# Altium footprint library ionis.PcbLib: 70 footprints (part 1 of 5)
Each footprint in its own frame and in the unit in brackets; x right, y up, seen from the top. Pads: shape width x height; smd on the part's side, far side on the other; paste and mask are expansions set on the pad; w line width, h text height; cw(c..) or ccw(c..) is an arc to the next point about the centre after c.
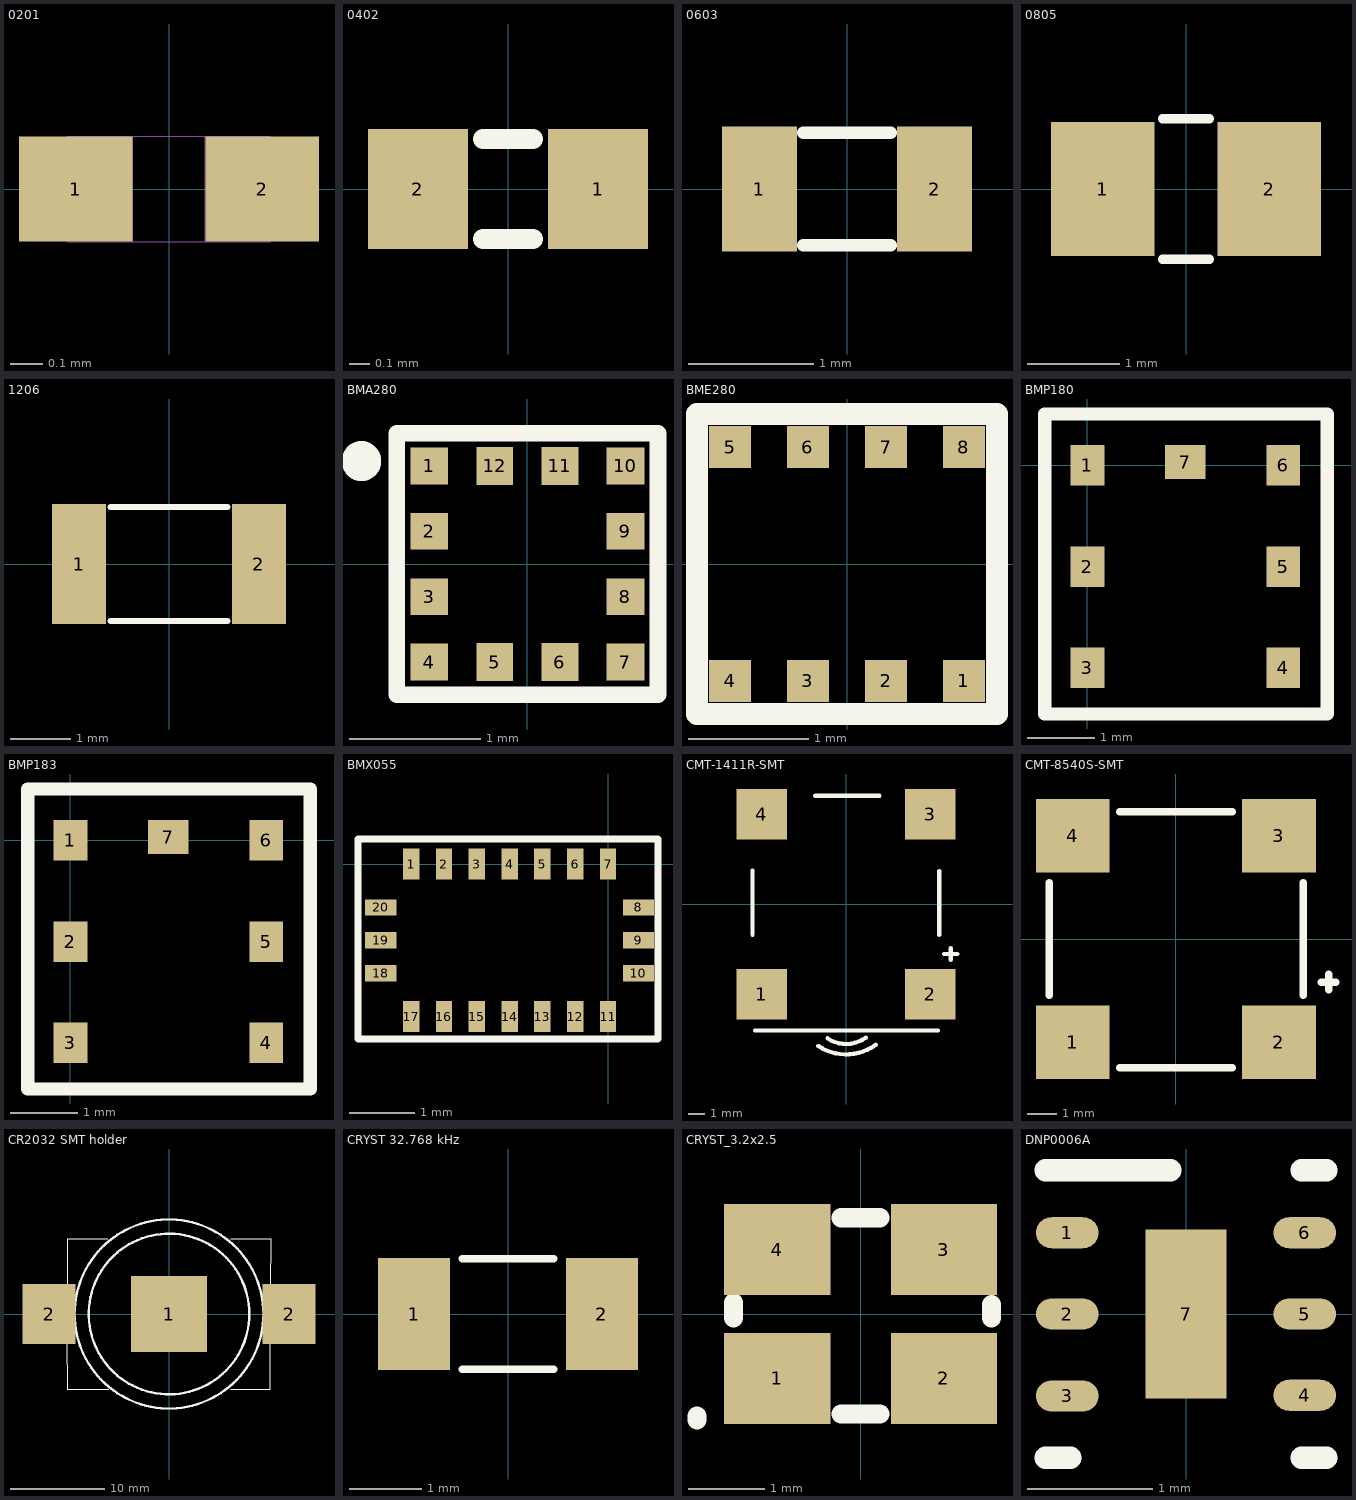
[diagram p0: the footprints below, top view; thin cyan lines are the x and y axes]

## 0201 [mil]
pads (2):
  rect 14x13 smd: 1(-11.5,0) 2(11.5,0)
Mechanical 1:
  lines w0: -12.5,-6.5 -12.5,6.5 ; -12.5,-6.5 12.5,-6.5 ; -12.5,-6.5 -4.5,-6.5 -4.5,6.5 -12.5,6.5 ; -12.5,-6.5 -12.5,6.5 ; -12.5,6.5 12.5,6.5 ; 12.5,-6.5 12.5,6.5 ; 12.5,-6.5 12.5,6.5 ; 12.5,-6.5 4.5,-6.5 4.5,6.5 12.5,6.5

## 0402 [mm]
pads (2):
  rect 0.5x0.6 smd: 1(0.45,0) 2(-0.45,0)
Top Overlay:
  lines w0.1: -0.125,-0.25 0.125,-0.25 ; -0.125,0.25 0.125,0.25

## 0603 [mm]
pads (2):
  rect 0.6x1 smd: 1(-0.7,0) 2(0.7,0)
Top Overlay:
  lines w0.1: -0.35,-0.45 0.35,-0.45 ; -0.35,0.45 0.35,0.45

## 0805 [mil]
pads (2):
  rect 44x57 smd: 1(-35.5,0) 2(35.5,0)
Top Overlay:
  lines w3.94: -10,-30 10,-30 ; -10,30 10,30

## 1206 [mm]
pads (2):
  rect 0.9x2 smd: 1(-1.5,0) 2(1.5,0)
Top Overlay:
  lines w0.1: -0.975,-0.95 0.975,-0.95 ; -0.975,0.95 0.975,0.95

## BMA280 [mm]
pads (12):
  rect 0.29x0.28 smd: 1(-0.75,0.75) 2(-0.75,0.25) 3(-0.75,-0.25) 4(-0.75,-0.75) 7(0.75,-0.75) 8(0.75,-0.25) 9(0.75,0.25) 10(0.75,0.75)
  rect 0.28x0.29 smd: 5(-0.25,-0.75) 6(0.25,-0.75) 11(0.25,0.75) 12(-0.25,0.75)
Top Overlay:
  circle w0.254: c-1.27,0.787 r0.025
  lines w0.127: -1,-1 -1,1 1,1 1,-1 -1,-1

## BME280 [mm]
pads (8):
  rect 0.35x0.35 smd: 1(0.975,-0.975) 2(0.325,-0.975) 3(-0.325,-0.975) 4(-0.975,-0.975) 5(-0.975,0.975) 6(-0.325,0.975) 7(0.325,0.975) 8(0.975,0.975)
Top Overlay:
  lines w0.18: -1.25,-1.25 1.25,-1.25 1.25,1.25 -1.25,1.25 -1.25,-1.25

## BMP180 [mm]
pads (7):
  rect 0.5x0.6 smd: 1(0,0) 2(0,-1.5) 3(0,-3) 4(2.9,-3) 5(2.9,-1.5) 6(2.9,0)
  rect 0.6x0.5 smd: 7(1.45,0.05)
Top Overlay:
  lines w0.2: -0.635,0.75 -0.635,-3.683 3.556,-3.683 3.556,-2.116 ; -0.635,0.762 3.556,0.762 3.556,-1.524 ; 3.556,-2.156 3.556,-1.397

## BMP183 [mm]
pads (7):
  rect 0.5x0.6 smd: 1(0,0) 2(0,-1.5) 3(0,-3) 4(2.9,-3) 5(2.9,-1.5) 6(2.9,0)
  rect 0.6x0.5 smd: 7(1.45,0.05)
Top Overlay:
  lines w0.2: -0.635,0.75 -0.635,-3.683 3.556,-3.683 3.556,-2.116 ; -0.635,0.762 3.556,0.762 3.556,-1.524 ; 3.556,-2.156 3.556,-1.397

## BMX055 [mm]
pads (20):
  rect 0.25x0.475 smd: 1(-3,0) 2(-2.5,0) 3(-2,0) 4(-1.5,0) 5(-1,0) 6(-0.5,0) 7(0,0) 11(0,-2.325) 12(-0.5,-2.325) 13(-1,-2.325) 14(-1.5,-2.325) 15(-2,-2.325) 16(-2.5,-2.325) 17(-3,-2.325)
  rect 0.475x0.25 smd: 8(0.463,-0.663) 9(0.463,-1.163) 10(0.463,-1.663) 18(-3.463,-1.663) 19(-3.463,-1.163) 20(-3.463,-0.663)
Top Overlay:
  lines w0.1: -3.81,-2.667 -3.81,0.381 0.762,0.381 0.762,-2.667 -3.81,-2.667

## CMT-1411R-SMT [mm] "sound transducer"
pads (4):
  rect 3x3 smd: 1(-5,-5.35) 2(5,-5.35) 3(5,5.35) 4(-5,5.35)
Top Overlay:
  lines w0.254: -5.563,-1.803 -5.563,2.007 ; -5.41,-7.5 5.461,-7.5 ; -1.829,6.452 1.981,6.452 ; -1.664,-8.414 ccw(c0,-5.918) 1.756,-8.351 ; -1.109,-7.964 ccw(c0,-6.3) 1.17,-7.922 ; 5.537,-1.829 5.537,1.981 ; 5.817,-2.946 6.604,-2.946 ; 6.223,-3.302 6.223,-2.616

## CMT-8540S-SMT [mm] "sound transducer"
pads (4):
  rect 2.5x2.5 smd: 1(-3.5,-3.5) 2(3.5,-3.5) 3(3.5,3.5) 4(-3.5,3.5)
Top Overlay:
  lines w0.254: -4.293,-1.905 -4.293,1.905 ; -1.905,-4.369 1.905,-4.369 ; -1.905,4.318 1.905,4.318 ; 4.318,-1.905 4.318,1.905 ; 4.928,-1.473 5.436,-1.473 ; 5.182,-1.727 5.182,-1.194

## CR2032 SMT holder [mm]
pads (3):
  rect 8x8 smd: 1(0,0)
  rect 5.588x6.35 smd: 2(-12.7,0) 2(12.7,0)
Top Overlay:
  circle w0.254: c0,0 r10
  circle w0.254: c0,0 r8.5
  lines w0.102: -10.805,-2.711 -10.78,-7.976 -6.401,-7.976 ; -10.693,2.769 -10.693,7.976 -6.477,7.976 ; 6.528,7.976 10.814,7.976 10.788,2.727 ; 6.553,-7.976 10.719,-7.976 10.719,-2.718

## CRYST 32.768 kHz [mm]
pads (2):
  rect 1x1.55 smd: 1(-1.3,0) 2(1.3,0)
Top Overlay:
  lines w0.102: -0.635,-0.762 0.635,-0.762 ; -0.635,0.762 0.635,0.762

## CRYST_3.2x2.5 [mm]
pads (4):
  rect 1.4x1.2 smd: 1(-1.1,-0.85) 2(1.1,-0.85) 3(1.1,0.85) 4(-1.1,0.85)
Top Overlay:
  lines w0.254: -2.159,-1.397 -2.159,-1.346 ; -1.676,-0.051 -1.676,0.152 ; -0.254,-1.321 0.254,-1.321 ; -0.254,1.27 0.254,1.27 ; 1.727,-0.051 1.727,0.127

## DNP0006A [mm]
pads (7):
  oval 0.5x0.25 smd paste-0.102 mask+0.051: 1(-0.95,0.65) 2(-0.95,0) 3(-0.95,-0.655) 4(0.95,-0.65) 5(0.95,0) 6(0.95,0.65)
  rect 0.65x1.35 smd paste-0.662 mask+0.051: 7(0,0)
Top Overlay:
  lines w0.178: -1.125,-1.15 -0.925,-1.15 ; -1.125,1.15 -0.125,1.15 ; 0.925,-1.15 1.125,-1.15 ; 0.925,1.15 1.125,1.15
Top Paste:
  region: -0.31,-0.625 0.31,-0.625 0.31,0.625 -0.31,0.625
3D body: height 0.25, standoff 0, extent 0,0 0.254,0.254